# EAGLE library part RPI-PICO2 (library MotoRecoPico)
Raspberry Pi Pico 2 (RP2350) module. MotoRecoPico usage: SPI1 (GP10-13) to MCP25625, SPI0 (GP16-19) to MicroSD, UART0 (GP0/GP1) to GPS, GP2 = 1PPS, GP3 = IG sense, GP22 = KEEP_ALIVE, GP28 = battery voltage sense. VSYS fed from the 5V rail via a Schottky diode.
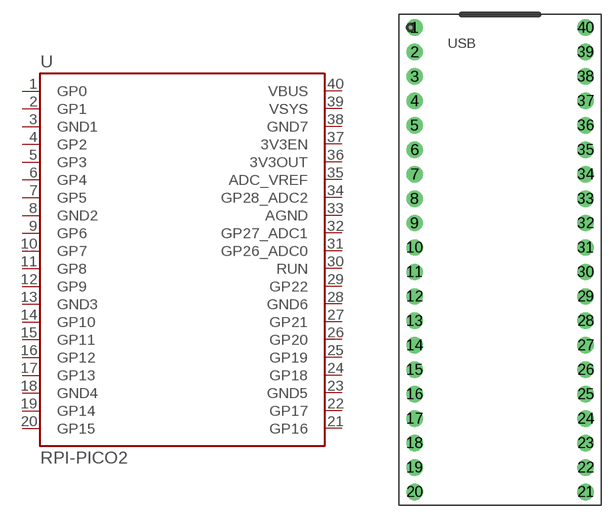
[diagram p2: symbol with the pads of RPI-PICO2-THT; footprint RPI-PICO2-THT]

Designator prefix U

## RPI-PICO2  [RPI-PICO2-THT]
1  GP0
2  GP1
3  GND1  pwr
4  GP2
5  GP3
6  GP4
7  GP5
8  GND2  pwr
9  GP6
10  GP7
11  GP8
12  GP9
13  GND3  pwr
14  GP10
15  GP11
16  GP12
17  GP13
18  GND4  pwr
19  GP14
20  GP15
21  GP16
22  GP17
23  GND5  pwr
24  GP18
25  GP19
26  GP20
27  GP21
28  GND6  pwr
29  GP22
30  RUN  in
31  GP26_ADC0
32  GP27_ADC1
33  AGND  pwr
34  GP28_ADC2
35  ADC_VREF  pwr
36  3V3OUT  pwr
37  3V3EN  in
38  GND7  pwr
39  VSYS  pwr
40  VBUS  pwr

## Footprint RPI-PICO2-THT (pad centres in mm)
Raspberry Pi Pico 2 (RP2350) mounted as a module on a carrier board. 2 x 20 through holes, 2.54mm pitch, 17.78mm (0.7 inch) row spacing. Origin is the centre of the hole grid. Pin 1 (GP0) and pin 40 (VBUS) are at the USB end (+Y). Hole grid is the controlled geometry; the 21 x 51mm board outline on tPlace is indicative. Drill 1.0mm suits 0.1 inch header pins - use a socket strip if the module must stay removable.
drill 1 pad 1.7: 1 -8.89,24.13; 2 -8.89,21.59; 3 -8.89,19.05; 4 -8.89,16.51; 5 -8.89,13.97; 6 -8.89,11.43; 7 -8.89,8.89; 8 -8.89,6.35; 9 -8.89,3.81; 10 -8.89,1.27; 11 -8.89,-1.27; 12 -8.89,-3.81; 13 -8.89,-6.35; 14 -8.89,-8.89; 15 -8.89,-11.43; 16 -8.89,-13.97; 17 -8.89,-16.51; 18 -8.89,-19.05; 19 -8.89,-21.59; 20 -8.89,-24.13; 21 8.89,-24.13; 22 8.89,-21.59; 23 8.89,-19.05; 24 8.89,-16.51; 25 8.89,-13.97; 26 8.89,-11.43; 27 8.89,-8.89; 28 8.89,-6.35; 29 8.89,-3.81; 30 8.89,-1.27; 31 8.89,1.27; 32 8.89,3.81; 33 8.89,6.35; 34 8.89,8.89; 35 8.89,11.43; 36 8.89,13.97; 37 8.89,16.51; 38 8.89,19.05; 39 8.89,21.59; 40 8.89,24.13